# Altium schematic symbol library lib_regulators.SchLib: 5 symbols
Pins are listed as number, name and electrical type; pins without a type are passive.

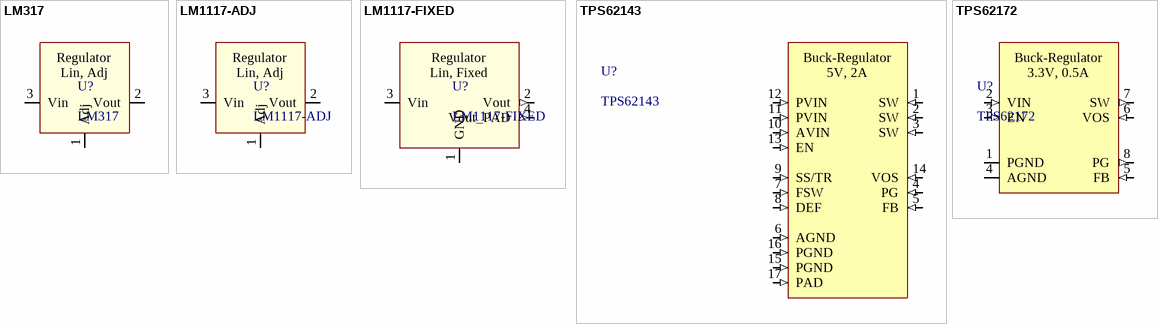
[diagram p0: symbols LM317 to TPS62172]

## LM317
designator U?
Linear Voltage Regulator 1.5A
pins: 1 Adj, 2 Vout, 3 Vin
text: Regulator; Lin, Adj

## LM1117-ADJ
designator U?
Linear Voltage Regulator 800 mA 1.2V Dropout
pins: 1 Adj, 2 Vout, 3 Vin
text: Regulator; Lin, Adj

## LM1117-FIXED
designator U?
Linear Voltage Regulator 800 mA 1.2V Dropout
footprint SOT-223 (SOT223, 4-Leads, Body 6,50x7,00mm (avg), Pitch 2,30mm, IPC Medium Density)
pins: 1 GND, 2 Vout (out), 3 Vin, 4 Vout_PAD (out)
text: Regulator; Lin, Fixed

## TPS62143
designator U?
5V, 2A Switched Buck Regulator
pins: 1 SW (in), 2 SW (in), 3 SW (in), 4 PG (in), 5 FB (in), 6 AGND (in), 7 FSW (in), 8 DEF (in), 9 SS/TR (in), 10 AVIN (in), 11 PVIN (in), 12 PVIN (in), 13 EN (in), 14 VOS (in), 15 PGND (in), 16 PGND (in), 17 PAD (in)
text: Buck-Regulator; 5V, 2A

## TPS62172
designator U?
pins: 1 PGND (power), 2 VIN (in), 3 EN (in), 4 AGND (power), 5 FB (in), 6 VOS (in), 7 SW (out), 8 PG (out)
text: Buck-Regulator; 3.3V, 0.5A